# Altium schematic symbol library zilog_z80.SchLib: 2 symbols
Pins are listed as number, name and electrical type; pins without a type are passive.

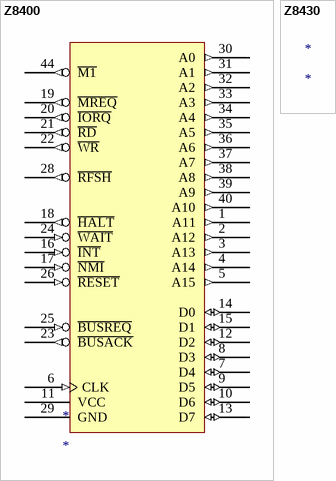
[diagram p0: symbols Z8400 to Z8430]

## Z8400
designator *
Z80ACPU
pins: 1 A11 (out), 2 A12 (out), 3 A13 (out), 4 A14 (out), 5 A15 (out), 6 CLK (in), 7 D4 (io), 8 D3 (io), 9 D5 (io), 10 D6 (io), 11 VCC (power), 12 D2 (io), 13 D7 (io), 14 D0 (io), 15 D1 (io), 16 ~{INT} (in), 17 ~{NMI} (in), 18 ~{HALT} (out), 19 ~{MREQ} (out), 20 ~{IORQ} (out), 21 ~{RD} (out), 22 ~{WR} (out), 23 ~{BUSACK} (out), 24 ~{WAIT} (in), 25 ~{BUSREQ} (in), 26 ~{RESET} (in), 28 ~{RFSH} (out), 29 GND (power), 30 A0 (out), 31 A1 (out), 32 A2 (out), 33 A3 (out), 34 A4 (out), 35 A5 (out), 36 A6 (out), 37 A7 (out), 38 A8 (out), 39 A9 (out), 40 A10 (out), 44 ~{M1} (out)

## Z8430
designator *
Z80APIO